# Altium schematic symbol library Custom_Schematics.SchLib: 7 symbols
Pins are listed as number, name and electrical type; pins without a type are passive.

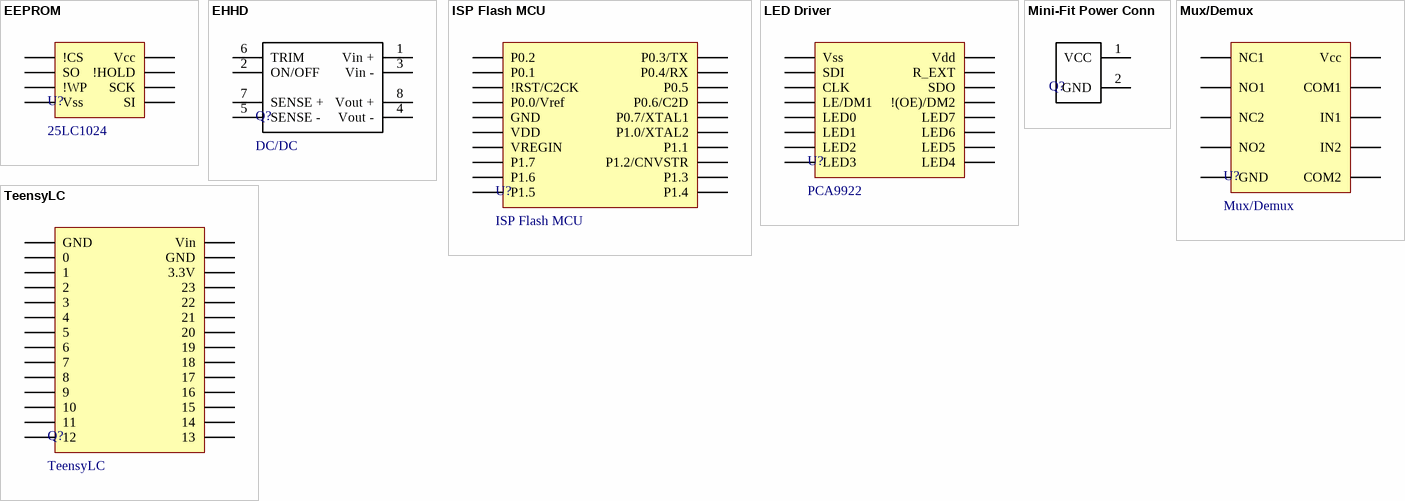
[diagram p0: symbols EEPROM to TeensyLC]

## EEPROM
designator U?, comment 25LC1024
footprint 25LC1024 (EEPROM)
pins: 1 !CS, 2 SO, 3 !WP, 4 Vss, 5 SI, 6 SCK, 7 !HOLD, 8 Vcc

## EHHD
designator Q?, comment DC/DC
Voltage Regulator
footprint EHHD (DC/DC)
pins: 1 Vin +, 2 ON/OFF, 3 Vin -, 4 Vout - (power), 5 SENSE -, 6 TRIM, 7 SENSE +, 8 Vout + (power)

## ISP Flash MCU
designator U?
footprint C8051F530 (ISP Flash MCU)
pins: 1 P0.2, 2 P0.1, 3 !RST/C2CK, 4 P0.0/Vref, 5 GND, 6 VDD, 7 VREGIN, 8 P1.7, 9 P1.6, 10 P1.5, 11 P1.4, 12 P1.3, 13 P1.2/CNVSTR, 14 P1.1, 15 P1.0/XTAL2, 16 P0.7/XTAL1, 17 P0.6/C2D, 18 P0.5, 19 P0.4/RX, 20 P0.3/TX

## LED Driver
designator U?, comment PCA9922
LED Driver
footprint PCA9922 (LED Driver)
pins: 1 Vss, 2 SDI, 3 CLK, 4 LE/DM1, 5 LED0, 6 LED1, 7 LED2, 8 LED3, 9 LED4, 10 LED5, 11 LED6, 12 LED7, 13 !(OE)/DM2, 14 SDO, 15 R_EXT, 16 Vdd

## Mini-Fit Power Conn
designator Q?, comment Power Conn  (value not drawn)
Mini-Fit Molex Connector
footprint Mini-Fit Power Conn (Molex Mini-Fit Power Connector)
pins: 1 VCC (power), 2 GND (power)

## Mux/Demux
designator U?
footprint TS3A24157 (TS3A24157 Mux/Demux SMD)
pins: 1 NC1, 2 NO1, 3 NC2, 4 NO2, 5 GND, 6 COM2, 7 IN2, 8 IN1, 9 COM1, 10 Vcc

## TeensyLC
designator Q?
footprint TeensyLC (Teensy LC Footprint)
pins: 1 GND, 2 0, 3 1, 4 2, 5 3, 6 4, 7 5, 8 6, 9 7, 10 8, 11 9, 12 10, 13 11, 14 12, 15 13, 16 14, 17 15, 18 16, 19 17, 20 18, 21 19, 22 20, 23 21, 24 22, 25 23, 26 3.3V, 27 GND, 28 Vin